# EAGLE library part MCP73855 (library U-Microchip-MCP73855-lipo-charger)
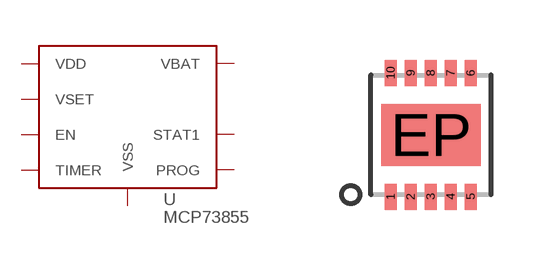
[diagram p0: symbol with the pads of 10-LEAD-DFN; footprint 10-LEAD-DFN]

Designator prefix U

## MCP73855  [10-LEAD-DFN]
1  STAT1  oc
2  VSET  in
3  VDD  pwr
4  VSS  pwr
5  PROG  pas
6  TIMER  pas
7  VSS  pwr
8  VBAT  pwr
9  VBAT  pwr
10  EN  in
EP  VSS  pwr

## Footprint 10-LEAD-DFN (pad centres in mm)
smd 0.3 x 0.65: 1 -1,-1.55; 2 -0.5,-1.55; 3 0,-1.55; 4 0.5,-1.55; 5 1,-1.55; 6 1,1.55; 7 0.5,1.55; 8 0,1.55; 9 -0.5,1.55; 10 -1,1.55
smd 2.48 x 1.55: EP 0,0